# EAGLE library part HEADER12 (library MVTHS)
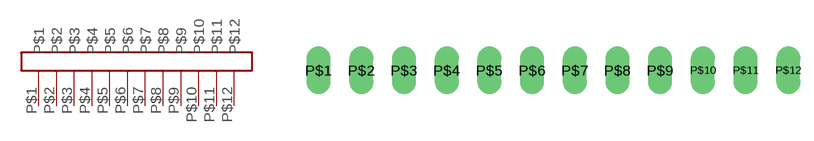
[diagram p1: symbol with the pads of HEADER12; footprint HEADER12]

Designator prefix -

## HEADER12DD  [HEADER12]
P$1  P$1
P$2  P$2
P$3  P$3
P$4  P$4
P$5  P$5
P$6  P$6
P$7  P$7
P$8  P$8
P$9  P$9
P$10  P$10
P$11  P$11
P$12  P$12

## Footprint HEADER12 (pad centres in mm)
drill 0.914 long: P$1 -7.62,0; P$2 -5.08,0; P$3 -2.54,0; P$4 0,0; P$5 2.54,0; P$6 5.08,0; P$7 7.62,0; P$8 10.16,0; P$9 12.7,0; P$10 15.24,0; P$11 17.78,0; P$12 20.32,0